# EAGLE library part HC-PM254-8.5H-2X6PW_LCSC (library lcsc_parts)
Description: 3A 12P -40℃~+105℃ Right Angle 5mm 2x6P 2.54mm Side 2 2.54mm Square Hole Through Hole,Right Angle,P=2.54mm Headers, Receptacles, Female Sockets RoHS Manufacturer: Hong Cheng MPN: HC-PM254-8.5H-2x6PW LCSC Part: C22373932 Category: Headers, Receptacles, Female Sockets Datasheet: https://datasheet.lcsc.com/datasheet/pdf/5c278df71f83c2edea52dba075a6b077.pdf?productCode=C22373932
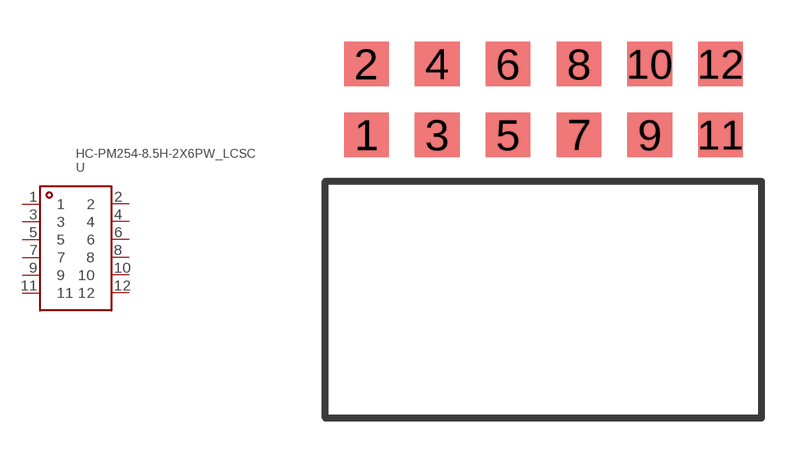
[diagram p22: symbol with the pads of CONN-TH_HC-PM254-8.5H-2X6PW; footprint CONN-TH_HC-PM254-8.5H-2X6PW]

Designator prefix U

## HC-PM254-8.5H-2X6PW_LCSC (CATEGORY: Headers, Receptacles, Female Sockets; CIRCULAR_HOLE_SQUARE_HOLE: Square Hole; CONTACT_MATERIAL: Brass; CONTACT_PLATING: Gold; CURRENT_RATING: 3A; DATASHEET: https://datasheet.lcsc.com/datasheet/pdf/5c278df71f83c2edea52dba075a6b077.pdf?productCode=C22373932; DESCRIPTION: 3A 12P -40℃~+105℃ Right Angle 5mm 2x6P 2.54mm Side 2 2.54mm Square Hole Through Hole,Right Angle,P=2.54mm Headers, Receptacles, Female Sockets RoHS; HOLES_DIRECTION: Side; HOLES_STRUCTURE: 2x6P; INSULATION_HEIGHT: 5mm; LCSC_PART: C22373932; LCSC_STOCK: 2195; MANUFACTURER: Hong Cheng; MOUNTING_TYPE: Right Angle; MPN: HC-PM254-8.5H-2x6PW; NUMBER_OF_POSITIONS: 12P; NUMBER_OF_ROWS: 2; OPERATING_TEMPERATURE: -40℃~+105℃; PARTNO: HC-PM254-8.5H-2x6PW; PIN_LENGTH: 3mm; PITCH: 2.54mm; PRICING_1000: $0.115/unit @ 1000; PRICING_50: $0.1561/unit @ 50; ROW_SPACING: 2.54mm)  [CONN-TH_HC-PM254-8.5H-2X6PW]
1  1
2  2
3  3
4  4
5  5
6  6
7  7
8  8
9  9
10  10
11  11
12  12

## Footprint CONN-TH_HC-PM254-8.5H-2X6PW (pad centres in mm)
smd 1.6 x 1.6: 1 -6.35,-1.27; 2 -6.35,1.27; 3 -3.81,-1.27; 4 -3.81,1.27; 5 -1.27,-1.27; 6 -1.27,1.27; 7 1.27,-1.27; 8 1.27,1.27; 9 3.81,-1.27; 10 3.81,1.27; 11 6.35,-1.27; 12 6.35,1.27